# Altium schematic symbol library MISC.SchLib: 5 symbols
Pins are listed as number, name and electrical type; pins without a type are passive.

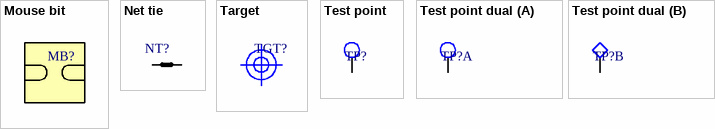
[diagram p0: symbols Mouse bit to Test point dual]

## Mouse bit
designator MB?  (value not drawn)
=description

## Net tie
designator NT?  (value not drawn)
=description
pins: 1, 2

## Target
designator TGT?  (value not drawn)
=description

## Test point
designator TP?  (value not drawn)
=description
pins: 1

## Test point dual
designator TP?  (value not drawn)
=description
part A pins: 1
part B pins: 2